# EAGLE library part ATTINY85 (library smd_parts)
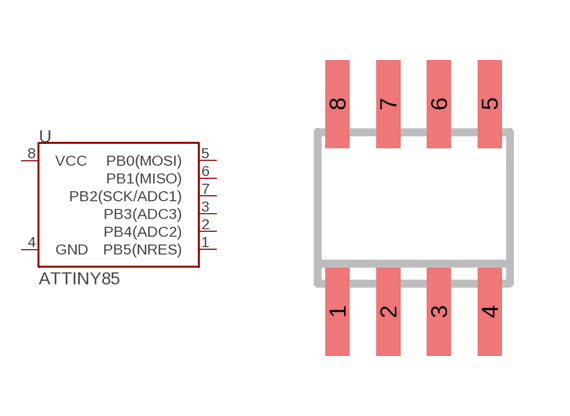
[diagram p0: symbol with the pads of SO08; footprint SO08]

Designator prefix -

## ATTINY85  [SO08]
1  PB5(NRES)
2  PB4(ADC2)
3  PB3(ADC3)
4  GND
5  PB0(MOSI)
6  PB1(MISO)
7  PB2(SCK/ADC1)
8  VCC

## Footprint SO08 (pad centres in mm)
SMALL OUTLINE INTEGRATED CIRCUIT body 3.9 mm/JEDEC MS-012AA
smd 0.6 x 2.2: 1 -1.905,-2.6; 2 -0.635,-2.6; 3 0.635,-2.6; 4 1.905,-2.6; 5 1.905,2.6; 6 0.635,2.6; 7 -0.635,2.6; 8 -1.905,2.6